# Altium footprint library PCB - CONNECTOR - HIROSE - Hirose MDF7-5S-2.54DSA.PCBLIB: 1 footprints
Each footprint in its own frame and in the unit in brackets; x right, y up, seen from the top. Pads: shape width x height; smd on the part's side, far side on the other; paste and mask are expansions set on the pad; w line width, h text height; cw(c..) or ccw(c..) is an arc to the next point about the centre after c.
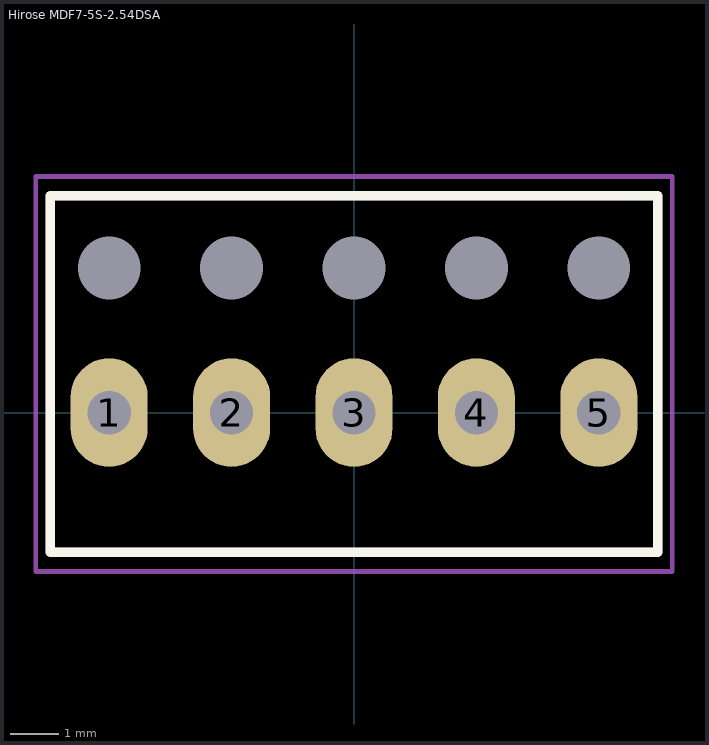
[diagram p0: the footprint, top view; thin cyan lines are the x and y axes]

## Hirose MDF7-5S-2.54DSA [mm]
height 5
pads (10):
  oval 1.6x2.25 hole 0.9: 1(-5.08,0) 2(-2.54,0) 3(0,0) 4(2.54,0) 5(5.08,0)
  round 0 hole 1.3 unplated paste-2539.97 mask+0.102: M(-5.08,3) M(-2.54,3) M(0,3) M(2.54,3) M(5.08,3)
Top Overlay:
  lines w0.2: -6.3,-2.9 -6.3,4.5 6.3,4.5 6.3,-2.9 -6.3,-2.9
Mechanical 13:
  lines w0.2: -6.3,-2.9 6.3,-2.9 6.3,4.5 -6.3,4.5 -6.3,-2.9
Mechanical 15:
  lines w0.1: -6.6,-3.3 -6.6,4.9 6.6,4.9 6.6,-3.3 -6.6,-3.3
  lines w0.2: -0.5,0 0.5,0 ; 0,-0.5 0,0.5
3D body "Hirose MDF7-5S-2.54DSA.step": height 5, standoff -3, extent -6.35,-2.95 6.35,4.553